# EAGLE library part 502585-0870 (library 502585-0870)
MOLEX - 502585-0870 - RECEPTACLE, SIL, 1.5MM, R/A, 8WAY Source: Datasheet <https://componentsearchengine.com/Datasheets/2/502585-0870.pdf>
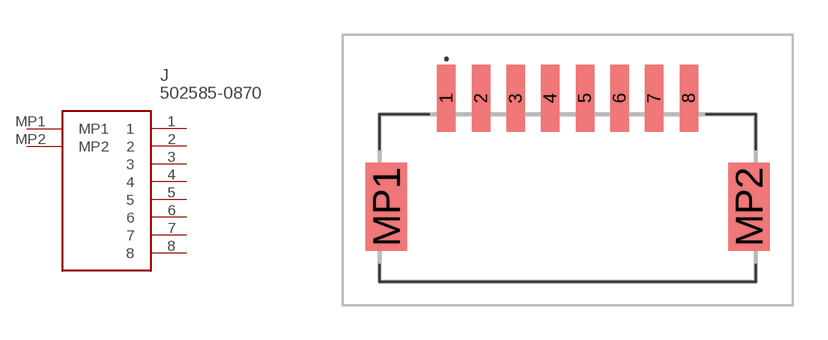
[diagram p0: symbol with the pads of 5025850870; footprint 5025850870]

Designator prefix J

## 502585-0870 (Description: MOLEX - 502585-0870 - RECEPTACLE, SIL, 1.5MM, R/A, 8WAY; Height: 6.35mm; Manufacturer_Name: Molex; Manufacturer_Part_Number: 502585-0870; Mouser_Part_Number: 538-502585-0870; Mouser_Price-Stock: https://www.mouser.co.uk/ProductDetail/Molex/502585-0870?qs=3OKVfsn1b5BOXCAdpuiwCA%3D%3D)  [5025850870]
1  1
2  2
3  3
4  4
5  5
6  6
7  7
8  8
MP1  MP1
MP2  MP2

## Footprint 5025850870 (pad centres in mm)
502585-0870-2
smd 0.8 x 2.9: 1 -5.25,3.1; 2 -3.75,3.1; 3 -2.25,3.1; 4 -0.75,3.1; 5 0.75,3.1; 6 2.25,3.1; 7 3.75,3.1; 8 5.25,3.1
smd 1.8 x 3.8: MP1 -7.85,-1.6; MP2 7.85,-1.6